# Altium integrated library Linear Technology Power Management Battery Management.IntLib: 626 symbols (part 25 of 56)
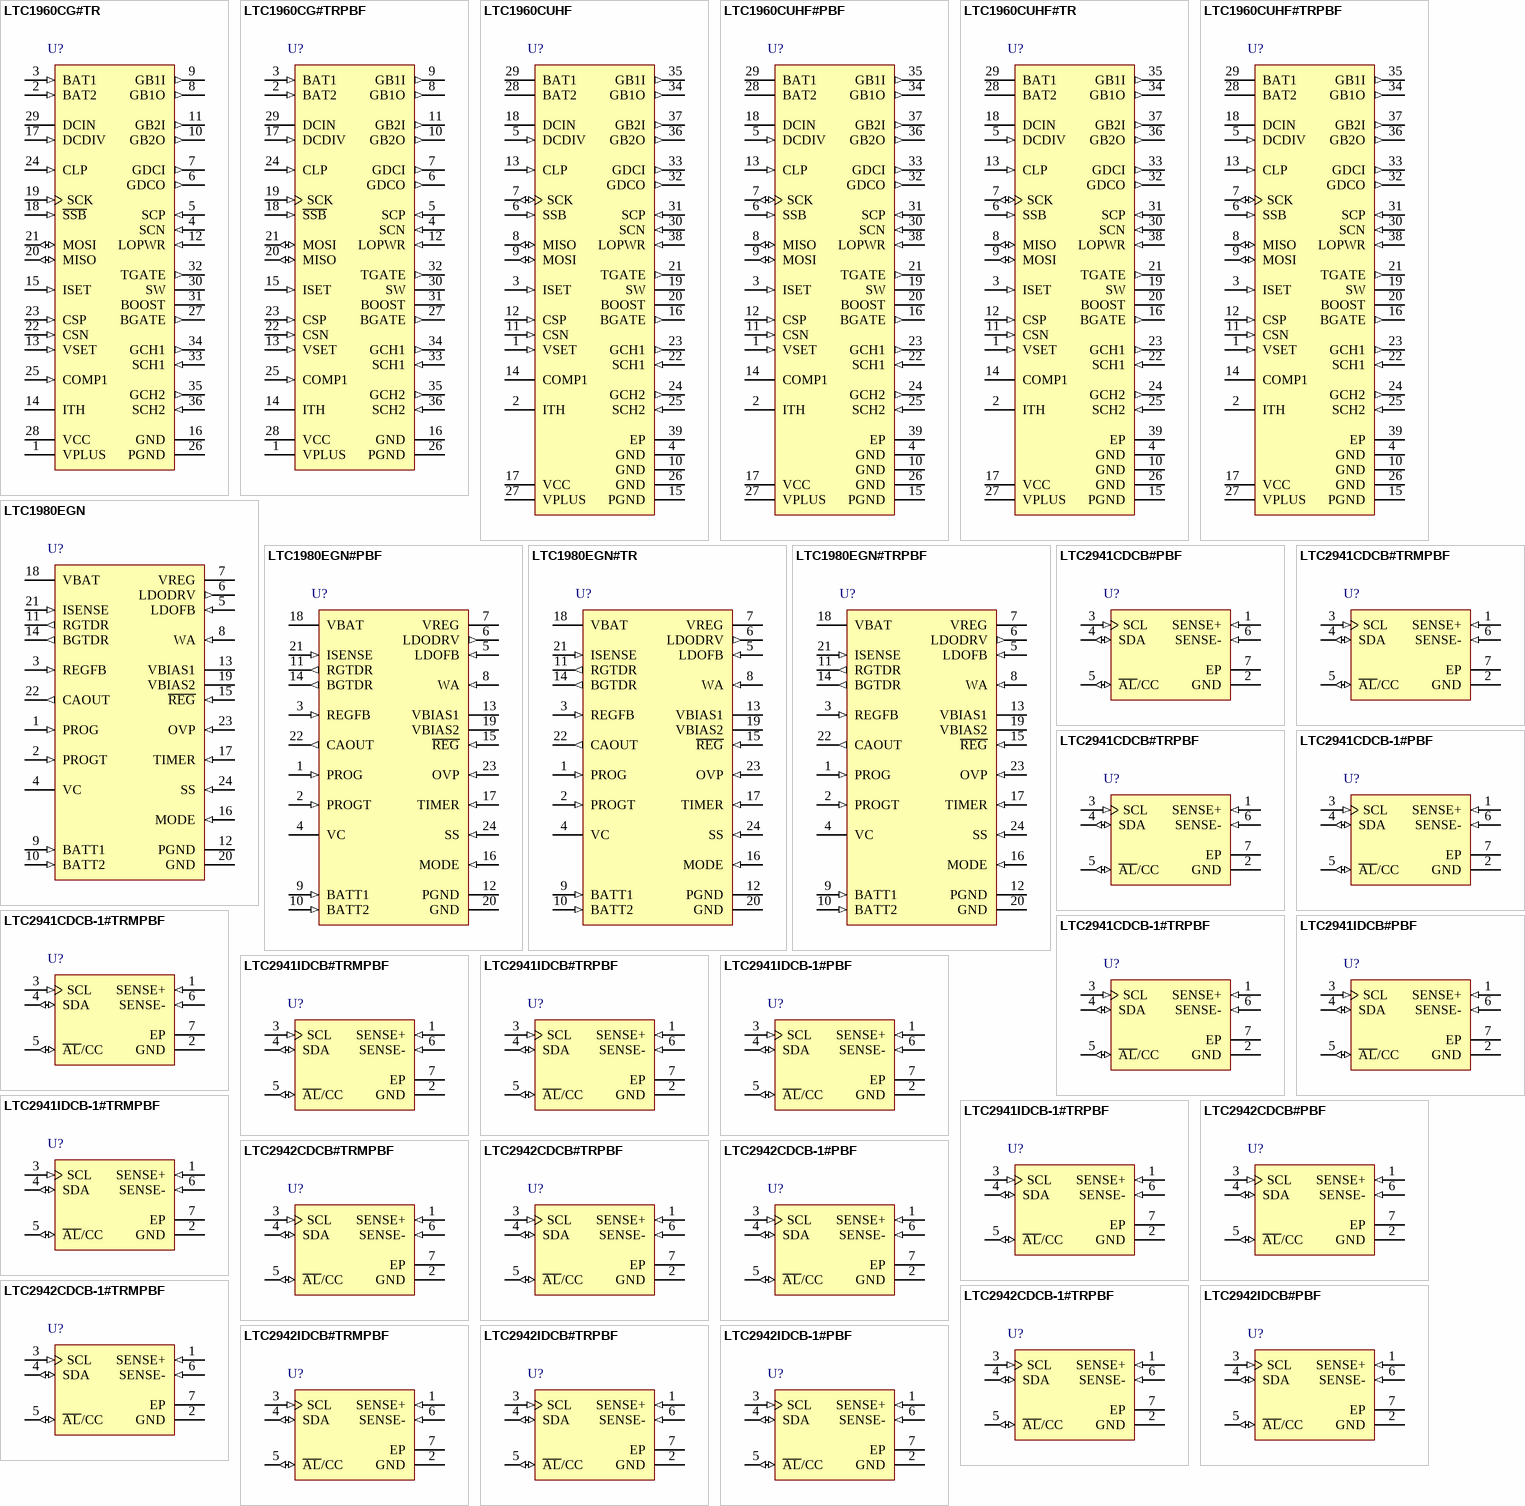
[diagram p46: symbols LTC1960CG#TR to LTC2942IDCB-1#PBF]

## LTC1960CUHF
designator U?
Dual Battery Charger / Selector with SPI Interface, 6 to 28 V Vin, 38-pin QFN (UHF-38), 0 to 70 degC; Manufacturer: Linear Technology; PartNumber: LTC1960CUHF; Battery Chemistry: Li-Ion, Li-Polymer, NiCd, NiMH, Lead Acid; Charge Termination: Microcontroller; Float Voltage: Adj; Max Charge Current(A): 4; Number of Cells: 1 to 18 (Ni), 2 to 6 (Li); Type of Charger: Switching, SPI; Vin Max(V): 28; Vin Min(V): 6; DatasheetVersion: Rev. B; PackageVersion: Rev. C, 06/2010; PackageReference: UHF-38; PackageDescription: 38-Pin Plastic QFN, Body 7 x 5 mm, Pitch 0.5 mm; RoHS: FALSE; Mounting Technology: Surface Mount; Code_JEDEC: MO-220; ComponentLink1Description: Manufacturer URL; ComponentLink1URL: http://www.linear.com/; ComponentLink2Description: Datasheet; ComponentLink2URL: http://cds.linear.com/docs/en/datasheet/1960fb.pdf; ComponentLink3Description: Package Specification; ComponentLink3URL: http://cds.linear.com/docs/en/packaging/QFN_38_05-08-1701.pdf
footprint LT-UHF-38_N (QFN, 38-Leads, Body 7.1x5.1mm, Pitch 0.5mm, Thermal Pad 3.15x5.15mm, IPC Medium Density)
footprint LT-UHF-38_L (QFN, 38-Leads, Body 7.1x5.1mm, Pitch 0.5mm, Thermal Pad 3.15x5.15mm, IPC High Density)
footprint LT-UHF-38_M (QFN, 38-Leads, Body 7.1x5.1mm, Pitch 0.5mm, Thermal Pad 3.15x5.15mm, IPC Low Density)
pins: 1 VSET (in) "The Tap Point of a Programmable Resistor Divider Which Provides Battery Voltage Feedback to the Charger. A capacitor from CSN to VSET and from VSET to GND provide necessary compensation and filtering for the voltage loop.", 2 ITH "The Control Signal of the Inner Loop of the Current Mode PWM. Higher ITH voltage corresponds to higher charging current in normal operation. A capacitor of at least 0.1 uF to GND filters out PWM ripple. Typical full-scale (See Datasheet)", 3 ISET (in) "A capacitor from ISET to ground is required to filter higher frequency components from the delta-sigma IDAC.", 4 GND (power) "Ground for Low Power Circuitry.", 5 DCDIV (in) "External DC Source Comparator Input from DCIN External Resistor Divider to GND. If the voltage at DCDIV is above the DCDIV comparator threshold, then the DC bit is set and the wall adapter power is considered to be adequate (See Datasheet)", 6 SSB (in) "SPI Slave Select Input. Active low. TTL levels. This signal is low when clocking data to / from the LTC1960.", 7 SCK (io) "Serial SPI Clock. TTL levels.", 8 MISO (io) "SPI Master-In-Slave-Out Output, Open Drain. Serial data is transmitted from the LTC1960, when SSB is low, on the falling edge of SCK. TTL levels. A 4.7 k pull-up resistor is recommended.", 9 MOSI (io) "SPI Master-Out-Slave-In Input. Serial data is transmitted to the LTC1960, when SSB is low, on the rising edge of SCK. TTL levels.", 10 GND (power) "Ground for Low Power Circuitry.", 11 CSN (in) "Current Amplifier CA1 Input. Connect this to the common output of the charger MUX switches.", 12 CSP (in) "Current Amplifier CA1 Input. This pin and the CSN pin measure the voltage across the sense resistor, RSNS , to provide the instantaneous current signals required for both peak and average current mode operation.", 13 CLP (in) "The Positive Input to the Supply Current Limiting Amplifier CL1. The threshold is set at 100 mV above the voltage at the DCIN pin. When used to limit supply current, a filter is needed to filter out the switching noise.", 14 COMP1 "The Compensation Node for the Amplifier CL1. A capacitor is required from this pin to GND if input current amplifier CL1 is used. At input adapter current limit, this node rises to 1 V. By forcing COMP1 low, amplifier CL1 (See Datasheet)", 15 PGND (power) "High Current Ground Return for BGATE Driver.", 16 BGATE (out) "Drives the bottom external MOSFET of the battery charger buck converter.", 17 VCC (power) "Internal Regulator Output. Bypass this output with at least a 2 uF to 4.7 uF capacitor. Do not use this regulator output to supply more than 1 mA to external circuitry.", 18 DCIN (power) "Supply. External DC power source. A 1 uF bypass capacitor should be connected to this pin as close as possible. No series resistance is allowed, since the adapter current limit comparator input is also this pin.", 19 SW "PWM switch node connected to source of the top external MOSFET switch. Used as reference for top gate driver.", 20 BOOST "Supply to Topside Floating Driver. The bootstrap capacitor is returned to this pin. Voltage swing at this pin is from a diode drop below VCC to (DCIN + VCC ).", 21 TGATE (out) "Drives the top external MOSFET of the battery charger buck converter.", 22 SCH1 (in) "Charger MUX N-Channel Switch Source Returns.", 23 GCH1 (out) "Charger MUX N-Channel Switch Gate Drives.", 24 GCH2 (out) "Charger MUX N-Channel Switch Gate Drives.", 25 SCH2 (in) "Charger MUX N-Channel Switch Source Returns.", 26 GND (power) "Ground for Low Power Circuitry.", 27 VPLUS (power) "Supply. The VPLUS pin is connected via four internal diodes to the DCIN, SCN, BAT1, and BAT2 pins. Bypass this pin with a 1 uF to 2 uF capacitor.", 28 BAT2 (power) "This pin is the input from the battery for power to the LTC1960 and to provide voltage feedback to the battery charger.", 29 BAT1 (power) "This pin is the input from the battery for power to the LTC1960 and to provide voltage feedback to the battery charger.", 30 SCN (in) "PowerPath Current Sensing Negative Input.", 31 SCP (in) "PowerPath Current Sensing Positive Input.", 32 GDCO (out) "DCIN Output Switch Gate Drive. Together with GDCI, this pin drives the gate of the P-channel switch in series with the DCIN input switch.", 33 GDCI (out) "DCIN Input Switch Gate Drive. Together with GDCO, this pin drives the gate of the P-channel switch connected to the DCIN input.", 34 GB1O (out) "BAT1 Output Switch Gate Drive. Together with GB1I, this pin drives the gate of the P-channel switch in series with the BAT1 input switch.", 35 GB1I (out) "BAT1 Input Switch Gate Drive. Together with GB1O, this pin drives the gate of the P-channel switch connected to the BAT1 input.", 36 GB2O (out) "BAT2 Output Switch Gate Drive. Together with GB2I, this pin drives the gate of the P-channel switch in series with the BAT2 input switch.", 37 GB2I (out) "BAT2 Input Switch Gate Drive. Together with GB2O, this pin drives the gate of the P-channel switch connected to the BAT2 input.", 38 LOPWR (in) "LOPWR Comparator Input from SCN External Resistor Divider to GND. If the voltage at LOPWR is lower than the LOPWR comparator threshold, then system power has failed and power is autonomously switched to a higher voltage (See Datasheet)", 39 EP (power) "Ground for Low Power Circuitry."

## LTC1960CUHF#PBF
designator U?
Dual Battery Charger / Selector with SPI Interface, 6 to 28 V Vin, 38-pin QFN (UHF-38), 0 to 70 degC, Pb-Free; Manufacturer: Linear Technology; PartNumber: LTC1960CUHF#PBF; Battery Chemistry: Li-Ion, Li-Polymer, NiCd, NiMH, Lead Acid; Charge Termination: Microcontroller; Float Voltage: Adj; Max Charge Current(A): 4; Number of Cells: 1 to 18 (Ni), 2 to 6 (Li); Type of Charger: Switching, SPI; Vin Max(V): 28; Vin Min(V): 6; DatasheetVersion: Rev. B; PackageVersion: Rev. C, 06/2010; PackageReference: UHF-38; PackageDescription: 38-Pin Plastic QFN, Body 7 x 5 mm, Pitch 0.5 mm; Supplier 1: Digi-Key; Supplier Part Number 1: LTC1960CUHF#PBF-ND; Supplier 2: Newark; Supplier Part Number 2: 58M0713; RoHS: TRUE; Mounting Technology: Surface Mount; Code_JEDEC: MO-220; ComponentLink1Description: Manufacturer URL; ComponentLink1URL: http://www.linear.com/; ComponentLink2Description: Datasheet; ComponentLink2URL: http://cds.linear.com/docs/en/datasheet/1960fb.pdf; ComponentLink3Description: Package Specification; ComponentLink3URL: http://cds.linear.com/docs/en/packaging/QFN_38_05-08-1701.pdf
footprint LT-UHF-38_N (QFN, 38-Leads, Body 7.1x5.1mm, Pitch 0.5mm, Thermal Pad 3.15x5.15mm, IPC Medium Density)
footprint LT-UHF-38_L (QFN, 38-Leads, Body 7.1x5.1mm, Pitch 0.5mm, Thermal Pad 3.15x5.15mm, IPC High Density)
footprint LT-UHF-38_M (QFN, 38-Leads, Body 7.1x5.1mm, Pitch 0.5mm, Thermal Pad 3.15x5.15mm, IPC Low Density)
pins: 1 VSET (in) "The Tap Point of a Programmable Resistor Divider Which Provides Battery Voltage Feedback to the Charger. A capacitor from CSN to VSET and from VSET to GND provide necessary compensation and filtering for the voltage loop.", 2 ITH "The Control Signal of the Inner Loop of the Current Mode PWM. Higher ITH voltage corresponds to higher charging current in normal operation. A capacitor of at least 0.1 uF to GND filters out PWM ripple. Typical full-scale (See Datasheet)", 3 ISET (in) "A capacitor from ISET to ground is required to filter higher frequency components from the delta-sigma IDAC.", 4 GND (power) "Ground for Low Power Circuitry.", 5 DCDIV (in) "External DC Source Comparator Input from DCIN External Resistor Divider to GND. If the voltage at DCDIV is above the DCDIV comparator threshold, then the DC bit is set and the wall adapter power is considered to be adequate (See Datasheet)", 6 SSB (in) "SPI Slave Select Input. Active low. TTL levels. This signal is low when clocking data to / from the LTC1960.", 7 SCK (io) "Serial SPI Clock. TTL levels.", 8 MISO (io) "SPI Master-In-Slave-Out Output, Open Drain. Serial data is transmitted from the LTC1960, when SSB is low, on the falling edge of SCK. TTL levels. A 4.7 k pull-up resistor is recommended.", 9 MOSI (io) "SPI Master-Out-Slave-In Input. Serial data is transmitted to the LTC1960, when SSB is low, on the rising edge of SCK. TTL levels.", 10 GND (power) "Ground for Low Power Circuitry.", 11 CSN (in) "Current Amplifier CA1 Input. Connect this to the common output of the charger MUX switches.", 12 CSP (in) "Current Amplifier CA1 Input. This pin and the CSN pin measure the voltage across the sense resistor, RSNS , to provide the instantaneous current signals required for both peak and average current mode operation.", 13 CLP (in) "The Positive Input to the Supply Current Limiting Amplifier CL1. The threshold is set at 100 mV above the voltage at the DCIN pin. When used to limit supply current, a filter is needed to filter out the switching noise.", 14 COMP1 "The Compensation Node for the Amplifier CL1. A capacitor is required from this pin to GND if input current amplifier CL1 is used. At input adapter current limit, this node rises to 1 V. By forcing COMP1 low, amplifier CL1 (See Datasheet)", 15 PGND (power) "High Current Ground Return for BGATE Driver.", 16 BGATE (out) "Drives the bottom external MOSFET of the battery charger buck converter.", 17 VCC (power) "Internal Regulator Output. Bypass this output with at least a 2 uF to 4.7 uF capacitor. Do not use this regulator output to supply more than 1 mA to external circuitry.", 18 DCIN (power) "Supply. External DC power source. A 1 uF bypass capacitor should be connected to this pin as close as possible. No series resistance is allowed, since the adapter current limit comparator input is also this pin.", 19 SW "PWM switch node connected to source of the top external MOSFET switch. Used as reference for top gate driver.", 20 BOOST "Supply to Topside Floating Driver. The bootstrap capacitor is returned to this pin. Voltage swing at this pin is from a diode drop below VCC to (DCIN + VCC ).", 21 TGATE (out) "Drives the top external MOSFET of the battery charger buck converter.", 22 SCH1 (in) "Charger MUX N-Channel Switch Source Returns.", 23 GCH1 (out) "Charger MUX N-Channel Switch Gate Drives.", 24 GCH2 (out) "Charger MUX N-Channel Switch Gate Drives.", 25 SCH2 (in) "Charger MUX N-Channel Switch Source Returns.", 26 GND (power) "Ground for Low Power Circuitry.", 27 VPLUS (power) "Supply. The VPLUS pin is connected via four internal diodes to the DCIN, SCN, BAT1, and BAT2 pins. Bypass this pin with a 1 uF to 2 uF capacitor.", 28 BAT2 (power) "This pin is the input from the battery for power to the LTC1960 and to provide voltage feedback to the battery charger.", 29 BAT1 (power) "This pin is the input from the battery for power to the LTC1960 and to provide voltage feedback to the battery charger.", 30 SCN (in) "PowerPath Current Sensing Negative Input.", 31 SCP (in) "PowerPath Current Sensing Positive Input.", 32 GDCO (out) "DCIN Output Switch Gate Drive. Together with GDCI, this pin drives the gate of the P-channel switch in series with the DCIN input switch.", 33 GDCI (out) "DCIN Input Switch Gate Drive. Together with GDCO, this pin drives the gate of the P-channel switch connected to the DCIN input.", 34 GB1O (out) "BAT1 Output Switch Gate Drive. Together with GB1I, this pin drives the gate of the P-channel switch in series with the BAT1 input switch.", 35 GB1I (out) "BAT1 Input Switch Gate Drive. Together with GB1O, this pin drives the gate of the P-channel switch connected to the BAT1 input.", 36 GB2O (out) "BAT2 Output Switch Gate Drive. Together with GB2I, this pin drives the gate of the P-channel switch in series with the BAT2 input switch.", 37 GB2I (out) "BAT2 Input Switch Gate Drive. Together with GB2O, this pin drives the gate of the P-channel switch connected to the BAT2 input.", 38 LOPWR (in) "LOPWR Comparator Input from SCN External Resistor Divider to GND. If the voltage at LOPWR is lower than the LOPWR comparator threshold, then system power has failed and power is autonomously switched to a higher voltage (See Datasheet)", 39 EP (power) "Ground for Low Power Circuitry."

## LTC1960CUHF#TR
designator U?
Dual Battery Charger / Selector with SPI Interface, 6 to 28 V Vin, 38-pin QFN (UHF-38), 0 to 70 degC, Tape and Reel; Manufacturer: Linear Technology; PartNumber: LTC1960CUHF#TR; Battery Chemistry: Li-Ion, Li-Polymer, NiCd, NiMH, Lead Acid; Charge Termination: Microcontroller; Float Voltage: Adj; Max Charge Current(A): 4; Number of Cells: 1 to 18 (Ni), 2 to 6 (Li); Type of Charger: Switching, SPI; Vin Max(V): 28; Vin Min(V): 6; DatasheetVersion: Rev. B; PackageVersion: Rev. C, 06/2010; PackageReference: UHF-38; PackageDescription: 38-Pin Plastic QFN, Body 7 x 5 mm, Pitch 0.5 mm; Packing: Tape and Reel; RoHS: FALSE; Mounting Technology: Surface Mount; Code_JEDEC: MO-220; ComponentLink1Description: Manufacturer URL; ComponentLink1URL: http://www.linear.com/; ComponentLink2Description: Datasheet; ComponentLink2URL: http://cds.linear.com/docs/en/datasheet/1960fb.pdf; ComponentLink3Description: Package Specification; ComponentLink3URL: http://cds.linear.com/docs/en/packaging/QFN_38_05-08-1701.pdf
footprint LT-UHF-38_N (QFN, 38-Leads, Body 7.1x5.1mm, Pitch 0.5mm, Thermal Pad 3.15x5.15mm, IPC Medium Density)
footprint LT-UHF-38_L (QFN, 38-Leads, Body 7.1x5.1mm, Pitch 0.5mm, Thermal Pad 3.15x5.15mm, IPC High Density)
footprint LT-UHF-38_M (QFN, 38-Leads, Body 7.1x5.1mm, Pitch 0.5mm, Thermal Pad 3.15x5.15mm, IPC Low Density)
pins: 1 VSET (in) "The Tap Point of a Programmable Resistor Divider Which Provides Battery Voltage Feedback to the Charger. A capacitor from CSN to VSET and from VSET to GND provide necessary compensation and filtering for the voltage loop.", 2 ITH "The Control Signal of the Inner Loop of the Current Mode PWM. Higher ITH voltage corresponds to higher charging current in normal operation. A capacitor of at least 0.1 uF to GND filters out PWM ripple. Typical full-scale (See Datasheet)", 3 ISET (in) "A capacitor from ISET to ground is required to filter higher frequency components from the delta-sigma IDAC.", 4 GND (power) "Ground for Low Power Circuitry.", 5 DCDIV (in) "External DC Source Comparator Input from DCIN External Resistor Divider to GND. If the voltage at DCDIV is above the DCDIV comparator threshold, then the DC bit is set and the wall adapter power is considered to be adequate (See Datasheet)", 6 SSB (in) "SPI Slave Select Input. Active low. TTL levels. This signal is low when clocking data to / from the LTC1960.", 7 SCK (io) "Serial SPI Clock. TTL levels.", 8 MISO (io) "SPI Master-In-Slave-Out Output, Open Drain. Serial data is transmitted from the LTC1960, when SSB is low, on the falling edge of SCK. TTL levels. A 4.7 k pull-up resistor is recommended.", 9 MOSI (io) "SPI Master-Out-Slave-In Input. Serial data is transmitted to the LTC1960, when SSB is low, on the rising edge of SCK. TTL levels.", 10 GND (power) "Ground for Low Power Circuitry.", 11 CSN (in) "Current Amplifier CA1 Input. Connect this to the common output of the charger MUX switches.", 12 CSP (in) "Current Amplifier CA1 Input. This pin and the CSN pin measure the voltage across the sense resistor, RSNS , to provide the instantaneous current signals required for both peak and average current mode operation.", 13 CLP (in) "The Positive Input to the Supply Current Limiting Amplifier CL1. The threshold is set at 100 mV above the voltage at the DCIN pin. When used to limit supply current, a filter is needed to filter out the switching noise.", 14 COMP1 "The Compensation Node for the Amplifier CL1. A capacitor is required from this pin to GND if input current amplifier CL1 is used. At input adapter current limit, this node rises to 1 V. By forcing COMP1 low, amplifier CL1 (See Datasheet)", 15 PGND (power) "High Current Ground Return for BGATE Driver.", 16 BGATE (out) "Drives the bottom external MOSFET of the battery charger buck converter.", 17 VCC (power) "Internal Regulator Output. Bypass this output with at least a 2 uF to 4.7 uF capacitor. Do not use this regulator output to supply more than 1 mA to external circuitry.", 18 DCIN (power) "Supply. External DC power source. A 1 uF bypass capacitor should be connected to this pin as close as possible. No series resistance is allowed, since the adapter current limit comparator input is also this pin.", 19 SW "PWM switch node connected to source of the top external MOSFET switch. Used as reference for top gate driver.", 20 BOOST "Supply to Topside Floating Driver. The bootstrap capacitor is returned to this pin. Voltage swing at this pin is from a diode drop below VCC to (DCIN + VCC ).", 21 TGATE (out) "Drives the top external MOSFET of the battery charger buck converter.", 22 SCH1 (in) "Charger MUX N-Channel Switch Source Returns.", 23 GCH1 (out) "Charger MUX N-Channel Switch Gate Drives.", 24 GCH2 (out) "Charger MUX N-Channel Switch Gate Drives.", 25 SCH2 (in) "Charger MUX N-Channel Switch Source Returns.", 26 GND (power) "Ground for Low Power Circuitry.", 27 VPLUS (power) "Supply. The VPLUS pin is connected via four internal diodes to the DCIN, SCN, BAT1, and BAT2 pins. Bypass this pin with a 1 uF to 2 uF capacitor.", 28 BAT2 (power) "This pin is the input from the battery for power to the LTC1960 and to provide voltage feedback to the battery charger.", 29 BAT1 (power) "This pin is the input from the battery for power to the LTC1960 and to provide voltage feedback to the battery charger.", 30 SCN (in) "PowerPath Current Sensing Negative Input.", 31 SCP (in) "PowerPath Current Sensing Positive Input.", 32 GDCO (out) "DCIN Output Switch Gate Drive. Together with GDCI, this pin drives the gate of the P-channel switch in series with the DCIN input switch.", 33 GDCI (out) "DCIN Input Switch Gate Drive. Together with GDCO, this pin drives the gate of the P-channel switch connected to the DCIN input.", 34 GB1O (out) "BAT1 Output Switch Gate Drive. Together with GB1I, this pin drives the gate of the P-channel switch in series with the BAT1 input switch.", 35 GB1I (out) "BAT1 Input Switch Gate Drive. Together with GB1O, this pin drives the gate of the P-channel switch connected to the BAT1 input.", 36 GB2O (out) "BAT2 Output Switch Gate Drive. Together with GB2I, this pin drives the gate of the P-channel switch in series with the BAT2 input switch.", 37 GB2I (out) "BAT2 Input Switch Gate Drive. Together with GB2O, this pin drives the gate of the P-channel switch connected to the BAT2 input.", 38 LOPWR (in) "LOPWR Comparator Input from SCN External Resistor Divider to GND. If the voltage at LOPWR is lower than the LOPWR comparator threshold, then system power has failed and power is autonomously switched to a higher voltage (See Datasheet)", 39 EP (power) "Ground for Low Power Circuitry."

## LTC1960CUHF#TRPBF
designator U?
Dual Battery Charger / Selector with SPI Interface, 6 to 28 V Vin, 38-pin QFN (UHF-38), 0 to 70 degC, Pb-Free, Tape and Reel; Manufacturer: Linear Technology; PartNumber: LTC1960CUHF#TRPBF; Battery Chemistry: Li-Ion, Li-Polymer, NiCd, NiMH, Lead Acid; Charge Termination: Microcontroller; Float Voltage: Adj; Max Charge Current(A): 4; Number of Cells: 1 to 18 (Ni), 2 to 6 (Li); Type of Charger: Switching, SPI; Vin Max(V): 28; Vin Min(V): 6; DatasheetVersion: Rev. B; PackageVersion: Rev. C, 06/2010; PackageReference: UHF-38; PackageDescription: 38-Pin Plastic QFN, Body 7 x 5 mm, Pitch 0.5 mm; Supplier 1: Digi-Key; Supplier Part Number 1: LTC1960CUHF#TRPBF-ND; Packing: Tape and Reel; RoHS: TRUE; Mounting Technology: Surface Mount; Code_JEDEC: MO-220; ComponentLink1Description: Manufacturer URL; ComponentLink1URL: http://www.linear.com/; ComponentLink2Description: Datasheet; ComponentLink2URL: http://cds.linear.com/docs/en/datasheet/1960fb.pdf; ComponentLink3Description: Package Specification; ComponentLink3URL: http://cds.linear.com/docs/en/packaging/QFN_38_05-08-1701.pdf
footprint LT-UHF-38_N (QFN, 38-Leads, Body 7.1x5.1mm, Pitch 0.5mm, Thermal Pad 3.15x5.15mm, IPC Medium Density)
footprint LT-UHF-38_L (QFN, 38-Leads, Body 7.1x5.1mm, Pitch 0.5mm, Thermal Pad 3.15x5.15mm, IPC High Density)
footprint LT-UHF-38_M (QFN, 38-Leads, Body 7.1x5.1mm, Pitch 0.5mm, Thermal Pad 3.15x5.15mm, IPC Low Density)
pins: 1 VSET (in) "The Tap Point of a Programmable Resistor Divider Which Provides Battery Voltage Feedback to the Charger. A capacitor from CSN to VSET and from VSET to GND provide necessary compensation and filtering for the voltage loop.", 2 ITH "The Control Signal of the Inner Loop of the Current Mode PWM. Higher ITH voltage corresponds to higher charging current in normal operation. A capacitor of at least 0.1 uF to GND filters out PWM ripple. Typical full-scale (See Datasheet)", 3 ISET (in) "A capacitor from ISET to ground is required to filter higher frequency components from the delta-sigma IDAC.", 4 GND (power) "Ground for Low Power Circuitry.", 5 DCDIV (in) "External DC Source Comparator Input from DCIN External Resistor Divider to GND. If the voltage at DCDIV is above the DCDIV comparator threshold, then the DC bit is set and the wall adapter power is considered to be adequate (See Datasheet)", 6 SSB (in) "SPI Slave Select Input. Active low. TTL levels. This signal is low when clocking data to / from the LTC1960.", 7 SCK (io) "Serial SPI Clock. TTL levels.", 8 MISO (io) "SPI Master-In-Slave-Out Output, Open Drain. Serial data is transmitted from the LTC1960, when SSB is low, on the falling edge of SCK. TTL levels. A 4.7 k pull-up resistor is recommended.", 9 MOSI (io) "SPI Master-Out-Slave-In Input. Serial data is transmitted to the LTC1960, when SSB is low, on the rising edge of SCK. TTL levels.", 10 GND (power) "Ground for Low Power Circuitry.", 11 CSN (in) "Current Amplifier CA1 Input. Connect this to the common output of the charger MUX switches.", 12 CSP (in) "Current Amplifier CA1 Input. This pin and the CSN pin measure the voltage across the sense resistor, RSNS , to provide the instantaneous current signals required for both peak and average current mode operation.", 13 CLP (in) "The Positive Input to the Supply Current Limiting Amplifier CL1. The threshold is set at 100 mV above the voltage at the DCIN pin. When used to limit supply current, a filter is needed to filter out the switching noise.", 14 COMP1 "The Compensation Node for the Amplifier CL1. A capacitor is required from this pin to GND if input current amplifier CL1 is used. At input adapter current limit, this node rises to 1 V. By forcing COMP1 low, amplifier CL1 (See Datasheet)", 15 PGND (power) "High Current Ground Return for BGATE Driver.", 16 BGATE (out) "Drives the bottom external MOSFET of the battery charger buck converter.", 17 VCC (power) "Internal Regulator Output. Bypass this output with at least a 2 uF to 4.7 uF capacitor. Do not use this regulator output to supply more than 1 mA to external circuitry.", 18 DCIN (power) "Supply. External DC power source. A 1 uF bypass capacitor should be connected to this pin as close as possible. No series resistance is allowed, since the adapter current limit comparator input is also this pin.", 19 SW "PWM switch node connected to source of the top external MOSFET switch. Used as reference for top gate driver.", 20 BOOST "Supply to Topside Floating Driver. The bootstrap capacitor is returned to this pin. Voltage swing at this pin is from a diode drop below VCC to (DCIN + VCC ).", 21 TGATE (out) "Drives the top external MOSFET of the battery charger buck converter.", 22 SCH1 (in) "Charger MUX N-Channel Switch Source Returns.", 23 GCH1 (out) "Charger MUX N-Channel Switch Gate Drives.", 24 GCH2 (out) "Charger MUX N-Channel Switch Gate Drives.", 25 SCH2 (in) "Charger MUX N-Channel Switch Source Returns.", 26 GND (power) "Ground for Low Power Circuitry.", 27 VPLUS (power) "Supply. The VPLUS pin is connected via four internal diodes to the DCIN, SCN, BAT1, and BAT2 pins. Bypass this pin with a 1 uF to 2 uF capacitor.", 28 BAT2 (power) "This pin is the input from the battery for power to the LTC1960 and to provide voltage feedback to the battery charger.", 29 BAT1 (power) "This pin is the input from the battery for power to the LTC1960 and to provide voltage feedback to the battery charger.", 30 SCN (in) "PowerPath Current Sensing Negative Input.", 31 SCP (in) "PowerPath Current Sensing Positive Input.", 32 GDCO (out) "DCIN Output Switch Gate Drive. Together with GDCI, this pin drives the gate of the P-channel switch in series with the DCIN input switch.", 33 GDCI (out) "DCIN Input Switch Gate Drive. Together with GDCO, this pin drives the gate of the P-channel switch connected to the DCIN input.", 34 GB1O (out) "BAT1 Output Switch Gate Drive. Together with GB1I, this pin drives the gate of the P-channel switch in series with the BAT1 input switch.", 35 GB1I (out) "BAT1 Input Switch Gate Drive. Together with GB1O, this pin drives the gate of the P-channel switch connected to the BAT1 input.", 36 GB2O (out) "BAT2 Output Switch Gate Drive. Together with GB2I, this pin drives the gate of the P-channel switch in series with the BAT2 input switch.", 37 GB2I (out) "BAT2 Input Switch Gate Drive. Together with GB2O, this pin drives the gate of the P-channel switch connected to the BAT2 input.", 38 LOPWR (in) "LOPWR Comparator Input from SCN External Resistor Divider to GND. If the voltage at LOPWR is lower than the LOPWR comparator threshold, then system power has failed and power is autonomously switched to a higher voltage (See Datasheet)", 39 EP (power) "Ground for Low Power Circuitry."

## LTC1980EGN
designator U?
Combination Battery Charger and System DC/DC Converter, 4.1 to 12 V Vin, 24-pin SOP (GN24), -40 to 85 degC; Manufacturer: Linear Technology; PartNumber: LTC1980EGN; Battery Chemistry: Li-Ion, Li-Polymer, NiCd, NiMH, Lead Acid; Charge Termination: On-board timer; Float Voltage: Adj; Max Charge Current(A): 2; Type of Charger: Switching, Buck-Boost; Vin Max(V): 12; Vin Min(V): 4.1; PackageVersion: Rev. B, 03/2012; PackageReference: GN24; PackageDescription: 24-Pin Plastic SSOP , Body 8.5 x 3.9 mm, Pitch 0.635 mm; Supplier 1: Digi-Key; Supplier Part Number 1: LTC1980EGN-ND; RoHS: FALSE; Mounting Technology: Surface Mount; ComponentLink1Description: Manufacturer URL; ComponentLink1URL: http://www.linear.com/; ComponentLink2Description: Datasheet; ComponentLink2URL: http://cds.linear.com/docs/en/datasheet/1980f.pdf; ComponentLink3Description: Package Specification; ComponentLink3URL: http://cds.linear.com/docs/en/packaging/05081641_B_GN24.pdf
footprint LT-GN-24_N (SOP, 24-Leads, Body 8.7x4mm, Pitch 0.635mm, IPC Medium Density)
footprint LT-GN-24_L (SOP, 24-Leads, Body 8.7x4mm, Pitch 0.635mm, IPC High Density)
footprint LT-GN-24_M (SOP, 24-Leads, Body 8.7x4mm, Pitch 0.635mm, IPC Low Density)
pins: 1 PROG (in) "Charge Current Ratio Programming Pin. Programs the full charge current when the charger is in the constant current mode. A resistor placed between the PROG pin and the PROGT pin (Pin 2) determines the charge current. The (See Datasheet)", 2 PROGT (in) "Trickle Charge Programming Pin. Programs the trickle charge current for a deeply discharged battery. Two resistors are used, one between the PROGT pin and CAOUT (Pin 22) and another from PROGT to ground. A capacitor between (See Datasheet)", 3 REGFB (in) "DC/DC Converter Feedback Pin. This pin is used to program the DC/DC converter output voltage when the LTC1980 is in the DC/DC (regulator) converter mode. An external resistor divider from VREG to REGFB to ground programs the (See Datasheet)", 4 VC "Control Signal of the Inner Loop of the Current Mode PWM. A common current mode loop is used by the battery charger and voltage regulator functions. Minimum duty factor (measured on BGTDR (Pin 14) in regulator mode and RGTDR (See Datasheet)", 5 LDOFB (in) "Low Dropout Regulator Feedback Pin. This pin is used to program the low dropout linear regulator output voltage. An external resistor divider from the output of the LDO regulator (drain of the external MOSFET) to LDOFB to (See Datasheet)", 6 LDODRV (out) "Low Dropout Error Amplifier Output. This pin drives the gate of an external PMOS pass transistor. This pin is pulled up to VREG (shutting off the pass transistor) if MODE (Pin 16) is grounded or if undervoltage occurs.", 7 VREG (power) "Connection Point to the DC/DC Converter Side of the Combo Charger/Converter Circuit.", 8 WA (in) "Wall Adapter Comparator Input. An external resistor divider from the wall adapter output to WA to ground sets the threshold which determines if charging can occur. If the wall adapter is below this threshold, the LTC1980 (See Datasheet)", 9 BATT1 (in) "Logic Input Pin for Selecting Preprogrammed Li-Ion Charge Voltage. See Truth Table logic settings.", 10 BATT2 (in) "Logic Input Pin for Selecting Preprogrammed Li-Ion Charge Voltage. The following combinations of BATT1 and BATT2 select the correct Li-Ion charge voltage.", 11 RGTDR (out) "DC/DC Converter (Regulator) Side Gate Drive Pin. This pin provides gate drive to the external MOSFET (REG-FET) that connects to VREG via the transformer.", 12 PGND (power) "Power Ground. Refer to the Applications Information section for proper use of ground and power ground connections.", 13 VBIAS1 (power) "Internally Generated Power Bus. Bypass this pin with a 1uF or larger ceramic capacitor (or other low ESR capacitor) to PGND (Pin 12). Do not connect any load to this pin.", 14 BGTDR (out) "DC/DC Converter (Battery) Side Gate Drive Pin. This pin provides gate drive to the external MOSFET (BAT-FET) that connects to VBAT via the transformer", 15 ~{REG} (in) "Bidirectional Regulator Mode Control Pin. A pull-up resistor is required between this pin and VBIAS2. This pin is open when charging normally, has a weak pulldown (approximately 5uA) when conditioning the battery and a (See Datasheet)", 16 MODE (in) "Selects different operating modes in both charger and DC/DC converter configurations. Also enables and disables Burst Mode operation. See Mode Pin Operation table in Application section.", 17 TIMER (in) "A timing capacitor on this pin determines the normal charge time for charge termination.", 18 VBAT (power) "This pin connects to the positive terminal of the battery and the battery side of the power converte", 19 VBIAS2 (power) "Internally Generated Voltage. Bypass this pin with a 1uF or larger ceramic capacitor (or other low ESR capacitor). Do not connect any load to this pin.", 20 GND (power) "Signal Ground. This pin should Kelvinconnect to the current sense resistor (RSENSE).", 21 ISENSE (in) "Current Sense Input Pin. Connects internally to a current amplifier and zero current comparator. This pin should Kelvin-connect to the current sense resistor (RSENSE) .", 22 CAOUT (out) "Current Amplifier Output. A program resistor connects between this pin and PROGT (Pin 2) to set the charge current (in constant-current mode).", 23 OVP (in) "Overvoltage Protection. This pin connects to the tap on an optional external voltage divider connected across the battery. This allows nonstandard float voltages to be used for the battery charger. Overvoltage, restart and (See Datasheet)", 24 SS (in) "Soft-Start. A capacitor between this pin and ground sets the battery charge ramp rate. Battery charge current is very low the moment after the converter switches from DC/DC converter (regulator) mode to battery charger mode (See Datasheet)"

## LTC1980EGN#PBF
designator U?
Combination Battery Charger and System DC/DC Converter, 4.1 to 12 V Vin, 24-pin SOP (GN24), -40 to 85 degC, Pb-Free; Manufacturer: Linear Technology; PartNumber: LTC1980EGN#PBF; Battery Chemistry: Li-Ion, Li-Polymer, NiCd, NiMH, Lead Acid; Charge Termination: On-board timer; Float Voltage: Adj; Max Charge Current(A): 2; Type of Charger: Switching, Buck-Boost; Vin Max(V): 12; Vin Min(V): 4.1; PackageVersion: Rev. B, 03/2012; PackageReference: GN24; PackageDescription: 24-Pin Plastic SSOP , Body 8.5 x 3.9 mm, Pitch 0.635 mm; Supplier 1: Digi-Key; Supplier Part Number 1: LTC1980EGN#PBF-ND; Supplier 2: Farnell; Supplier Part Number 2: 1648022; Supplier 3: Newark; Supplier Part Number 3: 58M0717; RoHS: TRUE; Mounting Technology: Surface Mount; ComponentLink1Description: Manufacturer URL; ComponentLink1URL: http://www.linear.com/; ComponentLink2Description: Datasheet; ComponentLink2URL: http://cds.linear.com/docs/en/datasheet/1980f.pdf; ComponentLink3Description: Package Specification; ComponentLink3URL: http://cds.linear.com/docs/en/packaging/05081641_B_GN24.pdf
footprint LT-GN-24_N (SOP, 24-Leads, Body 8.7x4mm, Pitch 0.635mm, IPC Medium Density)
footprint LT-GN-24_L (SOP, 24-Leads, Body 8.7x4mm, Pitch 0.635mm, IPC High Density)
footprint LT-GN-24_M (SOP, 24-Leads, Body 8.7x4mm, Pitch 0.635mm, IPC Low Density)
pins: 1 PROG (in) "Charge Current Ratio Programming Pin. Programs the full charge current when the charger is in the constant current mode. A resistor placed between the PROG pin and the PROGT pin (Pin 2) determines the charge current. The (See Datasheet)", 2 PROGT (in) "Trickle Charge Programming Pin. Programs the trickle charge current for a deeply discharged battery. Two resistors are used, one between the PROGT pin and CAOUT (Pin 22) and another from PROGT to ground. A capacitor between (See Datasheet)", 3 REGFB (in) "DC/DC Converter Feedback Pin. This pin is used to program the DC/DC converter output voltage when the LTC1980 is in the DC/DC (regulator) converter mode. An external resistor divider from VREG to REGFB to ground programs the (See Datasheet)", 4 VC "Control Signal of the Inner Loop of the Current Mode PWM. A common current mode loop is used by the battery charger and voltage regulator functions. Minimum duty factor (measured on BGTDR (Pin 14) in regulator mode and RGTDR (See Datasheet)", 5 LDOFB (in) "Low Dropout Regulator Feedback Pin. This pin is used to program the low dropout linear regulator output voltage. An external resistor divider from the output of the LDO regulator (drain of the external MOSFET) to LDOFB to (See Datasheet)", 6 LDODRV (out) "Low Dropout Error Amplifier Output. This pin drives the gate of an external PMOS pass transistor. This pin is pulled up to VREG (shutting off the pass transistor) if MODE (Pin 16) is grounded or if undervoltage occurs.", 7 VREG (power) "Connection Point to the DC/DC Converter Side of the Combo Charger/Converter Circuit.", 8 WA (in) "Wall Adapter Comparator Input. An external resistor divider from the wall adapter output to WA to ground sets the threshold which determines if charging can occur. If the wall adapter is below this threshold, the LTC1980 (See Datasheet)", 9 BATT1 (in) "Logic Input Pin for Selecting Preprogrammed Li-Ion Charge Voltage. See Truth Table logic settings.", 10 BATT2 (in) "Logic Input Pin for Selecting Preprogrammed Li-Ion Charge Voltage. The following combinations of BATT1 and BATT2 select the correct Li-Ion charge voltage.", 11 RGTDR (out) "DC/DC Converter (Regulator) Side Gate Drive Pin. This pin provides gate drive to the external MOSFET (REG-FET) that connects to VREG via the transformer.", 12 PGND (power) "Power Ground. Refer to the Applications Information section for proper use of ground and power ground connections.", 13 VBIAS1 (power) "Internally Generated Power Bus. Bypass this pin with a 1uF or larger ceramic capacitor (or other low ESR capacitor) to PGND (Pin 12). Do not connect any load to this pin.", 14 BGTDR (out) "DC/DC Converter (Battery) Side Gate Drive Pin. This pin provides gate drive to the external MOSFET (BAT-FET) that connects to VBAT via the transformer", 15 ~{REG} (in) "Bidirectional Regulator Mode Control Pin. A pull-up resistor is required between this pin and VBIAS2. This pin is open when charging normally, has a weak pulldown (approximately 5uA) when conditioning the battery and a (See Datasheet)", 16 MODE (in) "Selects different operating modes in both charger and DC/DC converter configurations. Also enables and disables Burst Mode operation. See Mode Pin Operation table in Application section.", 17 TIMER (in) "A timing capacitor on this pin determines the normal charge time for charge termination.", 18 VBAT (power) "This pin connects to the positive terminal of the battery and the battery side of the power converte", 19 VBIAS2 (power) "Internally Generated Voltage. Bypass this pin with a 1uF or larger ceramic capacitor (or other low ESR capacitor). Do not connect any load to this pin.", 20 GND (power) "Signal Ground. This pin should Kelvinconnect to the current sense resistor (RSENSE).", 21 ISENSE (in) "Current Sense Input Pin. Connects internally to a current amplifier and zero current comparator. This pin should Kelvin-connect to the current sense resistor (RSENSE) .", 22 CAOUT (out) "Current Amplifier Output. A program resistor connects between this pin and PROGT (Pin 2) to set the charge current (in constant-current mode).", 23 OVP (in) "Overvoltage Protection. This pin connects to the tap on an optional external voltage divider connected across the battery. This allows nonstandard float voltages to be used for the battery charger. Overvoltage, restart and (See Datasheet)", 24 SS (in) "Soft-Start. A capacitor between this pin and ground sets the battery charge ramp rate. Battery charge current is very low the moment after the converter switches from DC/DC converter (regulator) mode to battery charger mode (See Datasheet)"

## LTC1980EGN#TR
designator U?
Combination Battery Charger and System DC/DC Converter, 4.1 to 12 V Vin, 24-pin SOP (GN24), -40 to 85 degC, Tape and Reel; Manufacturer: Linear Technology; PartNumber: LTC1980EGN#TR; Battery Chemistry: Li-Ion, Li-Polymer, NiCd, NiMH, Lead Acid; Charge Termination: On-board timer; Float Voltage: Adj; Max Charge Current(A): 2; Type of Charger: Switching, Buck-Boost; Vin Max(V): 12; Vin Min(V): 4.1; PackageVersion: Rev. B, 03/2012; PackageReference: GN24; PackageDescription: 24-Pin Plastic SSOP , Body 8.5 x 3.9 mm, Pitch 0.635 mm; Supplier 1: Digi-Key; Supplier Part Number 1: LTC1980EGN#TR-ND; Packing: Tape and Reel; RoHS: FALSE; Mounting Technology: Surface Mount; ComponentLink1Description: Manufacturer URL; ComponentLink1URL: http://www.linear.com/; ComponentLink2Description: Datasheet; ComponentLink2URL: http://cds.linear.com/docs/en/datasheet/1980f.pdf; ComponentLink3Description: Package Specification; ComponentLink3URL: http://cds.linear.com/docs/en/packaging/05081641_B_GN24.pdf
footprint LT-GN-24_N (SOP, 24-Leads, Body 8.7x4mm, Pitch 0.635mm, IPC Medium Density)
footprint LT-GN-24_L (SOP, 24-Leads, Body 8.7x4mm, Pitch 0.635mm, IPC High Density)
footprint LT-GN-24_M (SOP, 24-Leads, Body 8.7x4mm, Pitch 0.635mm, IPC Low Density)
pins: 1 PROG (in) "Charge Current Ratio Programming Pin. Programs the full charge current when the charger is in the constant current mode. A resistor placed between the PROG pin and the PROGT pin (Pin 2) determines the charge current. The (See Datasheet)", 2 PROGT (in) "Trickle Charge Programming Pin. Programs the trickle charge current for a deeply discharged battery. Two resistors are used, one between the PROGT pin and CAOUT (Pin 22) and another from PROGT to ground. A capacitor between (See Datasheet)", 3 REGFB (in) "DC/DC Converter Feedback Pin. This pin is used to program the DC/DC converter output voltage when the LTC1980 is in the DC/DC (regulator) converter mode. An external resistor divider from VREG to REGFB to ground programs the (See Datasheet)", 4 VC "Control Signal of the Inner Loop of the Current Mode PWM. A common current mode loop is used by the battery charger and voltage regulator functions. Minimum duty factor (measured on BGTDR (Pin 14) in regulator mode and RGTDR (See Datasheet)", 5 LDOFB (in) "Low Dropout Regulator Feedback Pin. This pin is used to program the low dropout linear regulator output voltage. An external resistor divider from the output of the LDO regulator (drain of the external MOSFET) to LDOFB to (See Datasheet)", 6 LDODRV (out) "Low Dropout Error Amplifier Output. This pin drives the gate of an external PMOS pass transistor. This pin is pulled up to VREG (shutting off the pass transistor) if MODE (Pin 16) is grounded or if undervoltage occurs.", 7 VREG (power) "Connection Point to the DC/DC Converter Side of the Combo Charger/Converter Circuit.", 8 WA (in) "Wall Adapter Comparator Input. An external resistor divider from the wall adapter output to WA to ground sets the threshold which determines if charging can occur. If the wall adapter is below this threshold, the LTC1980 (See Datasheet)", 9 BATT1 (in) "Logic Input Pin for Selecting Preprogrammed Li-Ion Charge Voltage. See Truth Table logic settings.", 10 BATT2 (in) "Logic Input Pin for Selecting Preprogrammed Li-Ion Charge Voltage. The following combinations of BATT1 and BATT2 select the correct Li-Ion charge voltage.", 11 RGTDR (out) "DC/DC Converter (Regulator) Side Gate Drive Pin. This pin provides gate drive to the external MOSFET (REG-FET) that connects to VREG via the transformer.", 12 PGND (power) "Power Ground. Refer to the Applications Information section for proper use of ground and power ground connections.", 13 VBIAS1 (power) "Internally Generated Power Bus. Bypass this pin with a 1uF or larger ceramic capacitor (or other low ESR capacitor) to PGND (Pin 12). Do not connect any load to this pin.", 14 BGTDR (out) "DC/DC Converter (Battery) Side Gate Drive Pin. This pin provides gate drive to the external MOSFET (BAT-FET) that connects to VBAT via the transformer", 15 ~{REG} (in) "Bidirectional Regulator Mode Control Pin. A pull-up resistor is required between this pin and VBIAS2. This pin is open when charging normally, has a weak pulldown (approximately 5uA) when conditioning the battery and a (See Datasheet)", 16 MODE (in) "Selects different operating modes in both charger and DC/DC converter configurations. Also enables and disables Burst Mode operation. See Mode Pin Operation table in Application section.", 17 TIMER (in) "A timing capacitor on this pin determines the normal charge time for charge termination.", 18 VBAT (power) "This pin connects to the positive terminal of the battery and the battery side of the power converte", 19 VBIAS2 (power) "Internally Generated Voltage. Bypass this pin with a 1uF or larger ceramic capacitor (or other low ESR capacitor). Do not connect any load to this pin.", 20 GND (power) "Signal Ground. This pin should Kelvinconnect to the current sense resistor (RSENSE).", 21 ISENSE (in) "Current Sense Input Pin. Connects internally to a current amplifier and zero current comparator. This pin should Kelvin-connect to the current sense resistor (RSENSE) .", 22 CAOUT (out) "Current Amplifier Output. A program resistor connects between this pin and PROGT (Pin 2) to set the charge current (in constant-current mode).", 23 OVP (in) "Overvoltage Protection. This pin connects to the tap on an optional external voltage divider connected across the battery. This allows nonstandard float voltages to be used for the battery charger. Overvoltage, restart and (See Datasheet)", 24 SS (in) "Soft-Start. A capacitor between this pin and ground sets the battery charge ramp rate. Battery charge current is very low the moment after the converter switches from DC/DC converter (regulator) mode to battery charger mode (See Datasheet)"